# Altium footprint library SN74LS245N.PcbLib: 1 footprints
Each footprint in its own frame and in the unit in brackets; x right, y up, seen from the top. Pads: shape width x height; smd on the part's side, far side on the other; paste and mask are expansions set on the pad; w line width, h text height; cw(c..) or ccw(c..) is an arc to the next point about the centre after c.
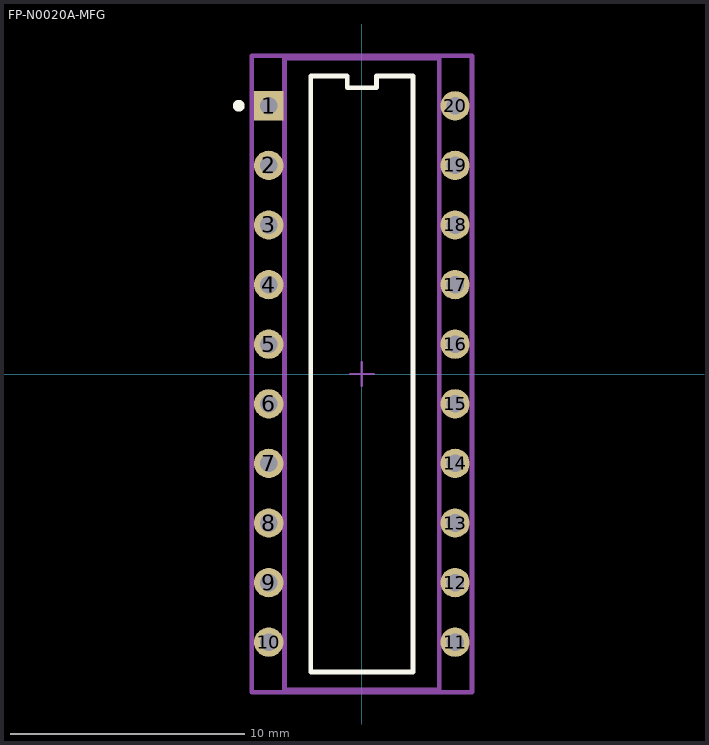
[diagram p0: the footprint, top view; thin cyan lines are the x and y axes]

## FP-N0020A-MFG [mm]
pads (20):
  rect 1.25x1.25 hole 0.75 paste-2539.97 mask+0: 1(-3.97,11.43)
  round 1.25 hole 0.75 paste-2539.97 mask+0: 2(-3.97,8.89) 3(-3.97,6.35) 4(-3.97,3.81) 5(-3.97,1.27) 6(-3.97,-1.27) 7(-3.97,-3.81) 8(-3.97,-6.35) 9(-3.97,-8.89) 10(-3.97,-11.43) 11(3.97,-11.43) 12(3.97,-8.89) 13(3.97,-6.35) 14(3.97,-3.81) 15(3.97,-1.27) 16(3.97,1.27) 17(3.97,3.81) 18(3.97,6.35) 19(3.97,8.89) 20(3.97,11.43)
Top Overlay:
  circle w0.25: c-5.245,11.43 r0.125
  lines w0.2: -2.175,-12.7 2.175,-12.7 2.175,12.7 0.621,12.7 0.621,12.2 -0.621,12.2 -0.621,12.7 -2.175,12.7 -2.175,-12.7
Top Assembly:
  lines w0.2: -4.695,-13.56 -4.695,13.56 4.695,13.56 4.695,-13.56 -4.695,-13.56
  text ".Designator" at 0,0.188 h1
Top 3D Body:
  lines w0.2: -3.3,-13.46 -3.3,13.46 3.3,13.46 3.3,-13.46 -3.3,-13.46
Top Courtyard:
  lines w0.2: -4.695,-13.56 -4.695,13.56 4.695,13.56 4.695,-13.56 -4.695,-13.56
Top Component Center:
  lines w0.1: -0.5,0 0.5,0 ; 0,-0.5 0,0.5
3D body "IC_Texas_Instruments_TPIC6B595N_eec.STEP": height 0.25, standoff 0, extent -4.695,-13.56 4.695,13.56